# Altium footprint library axsem_passives_v1-6.PCBLIB: 25 footprints (part 2 of 2)
Each footprint in its own frame and in the unit in brackets; x right, y up, seen from the top. Pads: shape width x height; smd on the part's side, far side on the other; paste and mask are expansions set on the pad; w line width, h text height; cw(c..) or ccw(c..) is an arc to the next point about the centre after c.
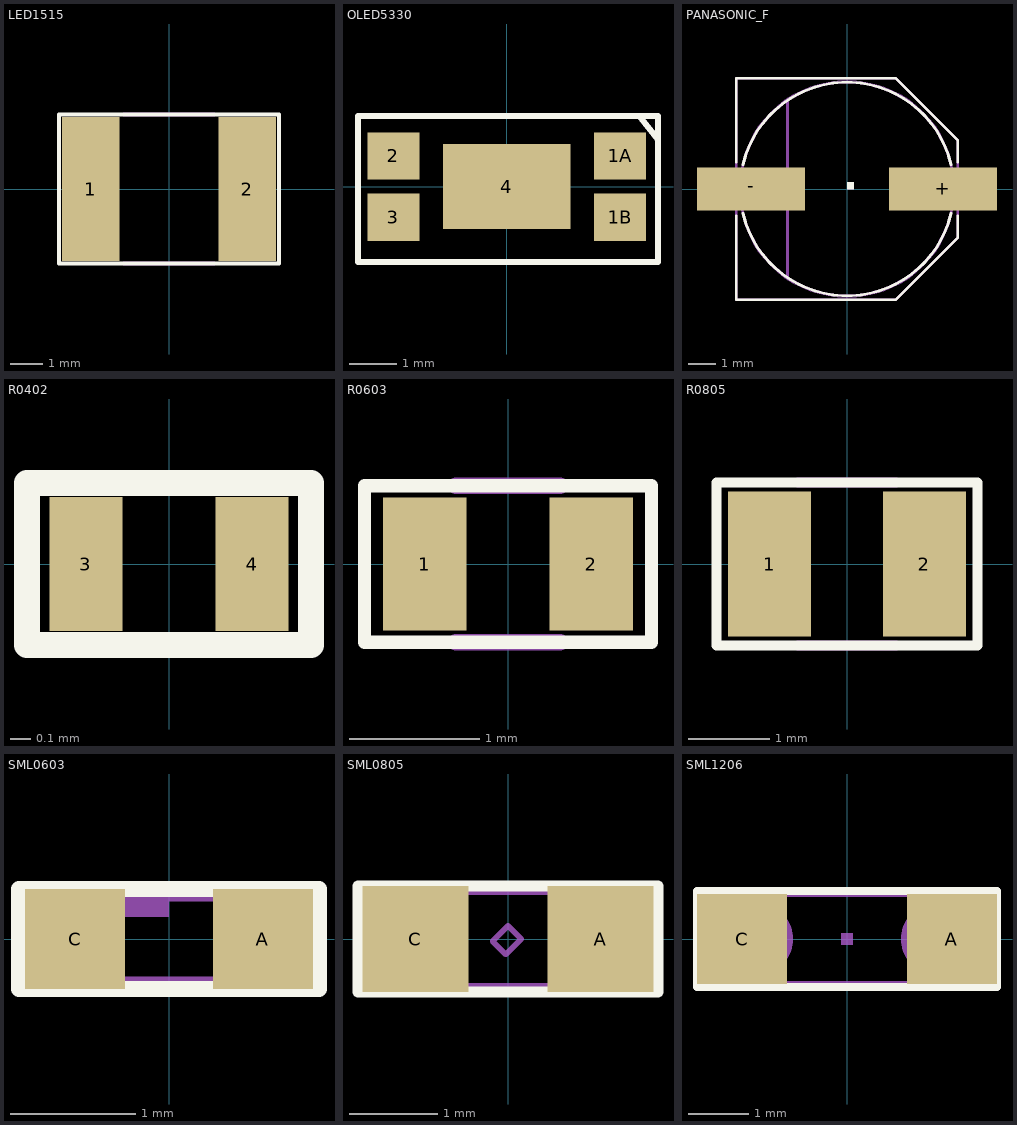
[diagram p1: the footprints below, top view; thin cyan lines are the x and y axes]

## LED1515 [mm]
pads (2):
  rect 1.78x4.45 smd: 1(-2.415,0) 2(2.415,0)
Top Overlay:
  lines w0.127: -3.4,-2.3 3.4,-2.3 3.4,2.3 -3.4,2.3 -3.4,-2.3
Mechanical 16:
  lines w0.127: -1.4,-2.3 1.4,-2.3 ; -1.4,2.3 1.4,2.3

## OLED5330 [mm]
pads (5):
  rect 1.1x1 smd: 1A(2.4,0.65) 1B(2.4,-0.65) 2(-2.4,0.65) 3(-2.4,-0.65)
  rect 2.7x1.8 smd: 4(0,0)
Top Overlay:
  lines w0.127: 2.8,1.5 -3.15,1.5 -3.15,-1.6 3.2,-1.6 3.2,1 ; 2.8,1.5 3.2,1 ; 2.8,1.5 3.2,1.5 3.2,1
Mechanical 16:
  lines w0.127: -1.4,-1.6 1.4,-1.6 ; -1.2,1.5 1.6,1.5

## PANASONIC_F [mm]
pads (2):
  rect 4x1.6 smd: +(3.55,0) -(-3.55,0)
Top Overlay:
  region: 0,0 0.254,0 0.254,0.254 0,0.254
  lines w0.102: -4.1,-1 -4.1,-4.1 1.8,-4.1 4.1,-1.8 4.1,-1 ; -4.1,1 -4.1,4.1 1.8,4.1 4.1,1.8 4.1,1 ; -3.85,-0.9 ccw(c0,0) 3.85,-0.9 ; -3.85,0.9 cw(c0,0) 3.85,0.9
Mechanical 16:
  circle w0.001: c0,0 r4
  circle w0.102: c0,0 r3.95
  rectangle: -4.85,-0.45 -3.9,0.45
  rectangle: 3.9,-0.45 4.85,0.45
  region: 0,0 0.254,0 0.254,0.254 0,0.254
  lines w0.102: -2.2,-3.25 -2.2,3.25 ; -4.1,-4.1 1.8,-4.1 4.1,-1.8 4.1,1.8 1.8,4.1 -4.1,4.1 -4.1,-4.1

## R0402 [mm]
pads (2):
  rect 0.36x0.66 smd: 3(-0.41,0) 4(0.41,0)
Top Overlay:
  lines w0.127: -0.7,-0.4 -0.7,0.4 0.7,0.4 0.7,-0.4 -0.7,-0.4
Mechanical 16:
  lines w0.127: -0.3,-0.4 0.3,-0.4 ; -0.3,0.4 0.3,0.4

## R0603 [mm]
pads (2):
  rect 0.64x1.02 smd: 1(-0.64,0) 2(0.64,0)
Top Overlay:
  lines w0.1: -1.1,-0.6 1.1,-0.6 1.1,0.6 -1.1,0.6 -1.1,-0.6
Mechanical 16:
  lines w0.127: -0.4,-0.6 0.4,-0.6 ; -0.4,0.6 0.4,0.6

## R0805 [mm]
pads (2):
  rect 1.02x1.78 smd: 1(-0.95,0) 2(0.95,0)
Top Overlay:
  lines w0.127: -1.6,-1 1.6,-1 1.6,1 -1.6,1 -1.6,-1
Mechanical 16:
  lines w0.127: -0.6,-1 0.6,-1 ; -0.6,1 0.6,1

## SML0603 [mil]
pads (2):
  rect 31.5x31.5 smd: A(29.53,0) C(-29.53,0)
Top Overlay:
  rectangle: -37.4,-4.92 -27.56,3.94
  lines w5: -47.24,-15.75 47.24,-15.75 47.24,15.75 -47.24,15.75 -47.24,-15.75
Mechanical 16:
  rectangle: -15.75,6.89 0,15.75
  lines w4: -17.72,-11.81 -17.72,11.81 ; -7.87,-13.78 7.87,-13.78 ; -7.87,13.78 7.87,13.78 ; 17.72,-11.81 17.72,11.81 ; -29.53,-13.78 29.53,-13.78 29.53,13.78 -29.53,13.78 -29.53,-13.78

## SML0805 [mm]
pads (2):
  rect 1.2x1.2 smd: A(1.05,0) C(-1.05,0)
Top Overlay:
  circle w0: c-1.275,0 r0.125
  lines w0.127: -1.7,-0.6 1.7,-0.6 1.7,0.6 -1.7,0.6 -1.7,-0.6
Mechanical 16:
  lines w0.064: -0.175,-0.025 0,0.15 0.15,0 -0.025,-0.175 -0.175,-0.025
  lines w0.102: -0.95,-0.55 0.95,-0.55 0.95,0.55 -0.95,0.55 -0.95,-0.55

## SML1206 [mm]
pads (2):
  rect 1.5x1.5 smd: A(1.75,0) C(-1.75,0)
Top Overlay:
  circle w0: c-2.125,0.025 r0.125
  lines w0.127: -2.5,-0.8 2.5,-0.8 2.5,0.8 -2.5,0.8 -2.5,-0.8
Mechanical 16:
  rectangle: -1.6,0.4 -1.15,0.8
  rectangle: -1.6,-0.8 -1.15,-0.4
  rectangle: -1.175,-0.6 -1,-0.275
  region: 1.6,-0.4 1.15,-0.4 1.15,-0.8 1.6,-0.8
  region: 1.6,0.8 1.15,0.8 1.15,0.4 1.6,0.4
  region: 1.175,0.6 1,0.6 1,0.275 1.175,0.275
  rectangle: -0.1,-0.1 0.1,0.1
  lines w0.102: -1.55,-0.75 1.55,-0.75 ; -1.55,0.75 1.55,0.75
  lines w0.203: -1.5,-0.5 ccw(c-1.5,0) -1.5,0.5 ; 1.5,-0.5 cw(c1.5,0) 1.5,0.5